# Altium schematic symbol library conn-3x1_0.Schlib: 1 symbol
Pins are listed as number, name and electrical type; pins without a type are passive.

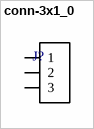
[diagram p0: symbol conn-3x1_0]

## conn-3x1_0
designator J?  (value not drawn)
Connector, 3x1
pins: 1, 2, 3